# Altium schematic symbol library M5Stack_StampS3.SchLib: 1 symbol
Pins are listed as number, name and electrical type; pins without a type are passive.

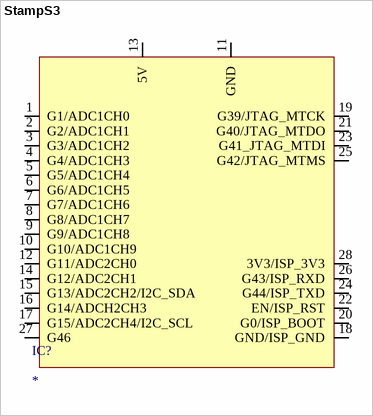
[diagram p0: symbol StampS3]

## StampS3
designator IC?
footprint STAMP-S3-DIP
footprint Stamp-S3-SMD
pins: 1 G1/ADC1CH0, 2 G2/ADC1CH1, 3 G3/ADC1CH2, 4 G4/ADC1CH3, 5 G5/ADC1CH4, 6 G6/ADC1CH5, 7 G7/ADC1CH6, 8 G8/ADC1CH7, 9 G9/ADC1CH8, 10 G10/ADC1CH9, 11 GND, 12 G11/ADC2CH0, 13 5V, 14 G12/ADC2CH1, 15 G13/ADC2CH2/I2C_SDA, 16 G14/ADCH2CH3, 17 G15/ADC2CH4/I2C_SCL, 18 GND/ISP_GND, 19 G39/JTAG_MTCK, 20 G0/ISP_BOOT, 21 G40/JTAG_MTDO, 22 EN/ISP_RST, 23 G41_JTAG_MTDI, 24 G44/ISP_TXD, 25 G42/JTAG_MTMS, 26 G43/ISP_RXD, 27 G46, 28 3V3/ISP_3V3